# EAGLE library part USB (library marius)
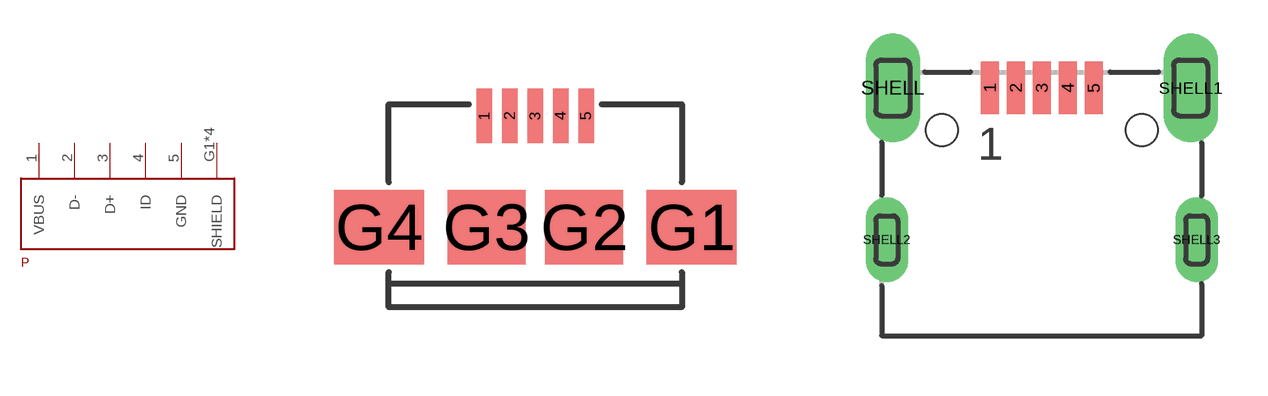
[diagram p24: symbol with the pads of USB-MICRO-B; footprints USB-MICRO-B, 629105150521]

Designator prefix P

## USB (MPN: 10104110-0001LF; PROD: AMPHENOL FCI)  [USB-MICRO-B]
1  VBUS
2  D-
3  D+
4  ID
5  GND
G1  SHIELD
G2  SHIELD
G3  SHIELD
G4  SHIELD

## USB629105150521  [629105150521]
1  VBUS
2  D-
3  D+
4  ID
5  GND
SHELL  SHIELD
SHELL1  SHIELD
SHELL2  SHIELD
SHELL3  SHIELD

## Footprint USB-MICRO-B (pad centres in mm)
smd 0.4 x 1.4: 1 -1.3,-0.7; 2 -0.65,-0.7; 3 0,-0.7; 4 0.65,-0.7; 5 1.3,-0.7
smd 2.3 x 1.9: G1 4,-3.55; G4 -4,-3.55
smd 2 x 1.9: G2 1.25,-3.55; G3 -1.25,-3.55

## Footprint 629105150521 (pad centres in mm)
629105150521 WR-COM_USB_Micro Type B_Horizontal_SMT Micro Type B Horizontal SMT - 3A current at Pin1 & Pin 5 - with Pegs and THT shielding Pins - T&R Packaging
smd 0.45 x 1.3: 1 -1.3,1.05; 2 -0.65,1.05; 3 0,1.05; 4 0.65,1.05; 5 1.3,1.05
drill 0.85 pad 1.2 long: SHELL -3.725,1.05; SHELL1 3.725,1.05
drill 0.55 pad 0.9 long: SHELL2 -3.875,-2.75; SHELL3 3.875,-2.75
hole 0.8 at -2.5,0
hole 0.8 at 2.5,0